# EAGLE library part AD8314 (library analog-devices)
RF Detector/Controller 100 MHz to 2.7 GHz, 45 dB
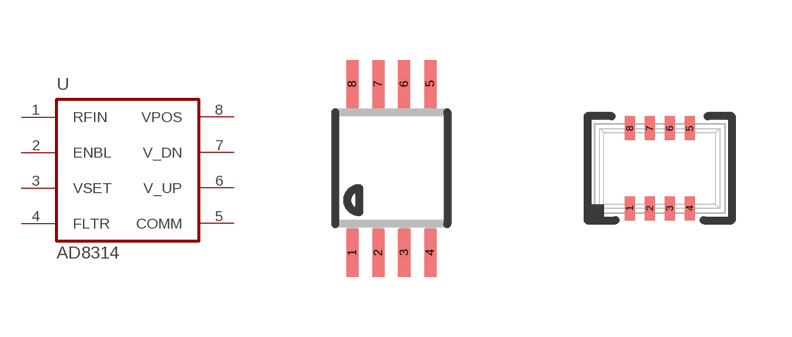
[diagram p49: symbol with the pads of MSOP08; footprints MSOP08, LFCSP8_VD]

Designator prefix U

## AD8314RM  [MSOP08]
1  RFIN  in
2  ENBL  in
3  VSET  in
4  FLTR  pas
5  COMM  pwr
6  V_UP  pas
7  V_DN  pas
8  VPOS  pwr

## AD8314CP  [LFCSP8_VD]
Pads as for MSOP08

## Footprint MSOP08 (pad centres in mm)
Mini Small Outline Package
smd 0.3 x 1.2: 1 -0.975,-2.113; 2 -0.325,-2.113; 3 0.325,-2.113; 4 0.975,-2.113; 5 0.975,2.112; 6 0.324,2.112; 7 -0.325,2.112; 8 -0.975,2.112

## Footprint LFCSP8_VD (pad centres in mm)
Lead Frame Chip Scale Package 8 lead, 2 mm × 3 mm Body, Very Thin, Dual Lead (CP-8-1)
smd 0.25 x 0.6: 1 -0.75,-1; 2 -0.25,-1; 3 0.25,-1; 4 0.75,-1; 5 0.75,1; 6 0.25,1; 7 -0.25,1; 8 -0.75,1